# Altium schematic symbol library ZLS_Schematic_lib.SchLib: 124 symbols
Pins are listed as number, name and electrical type; pins without a type are passive.

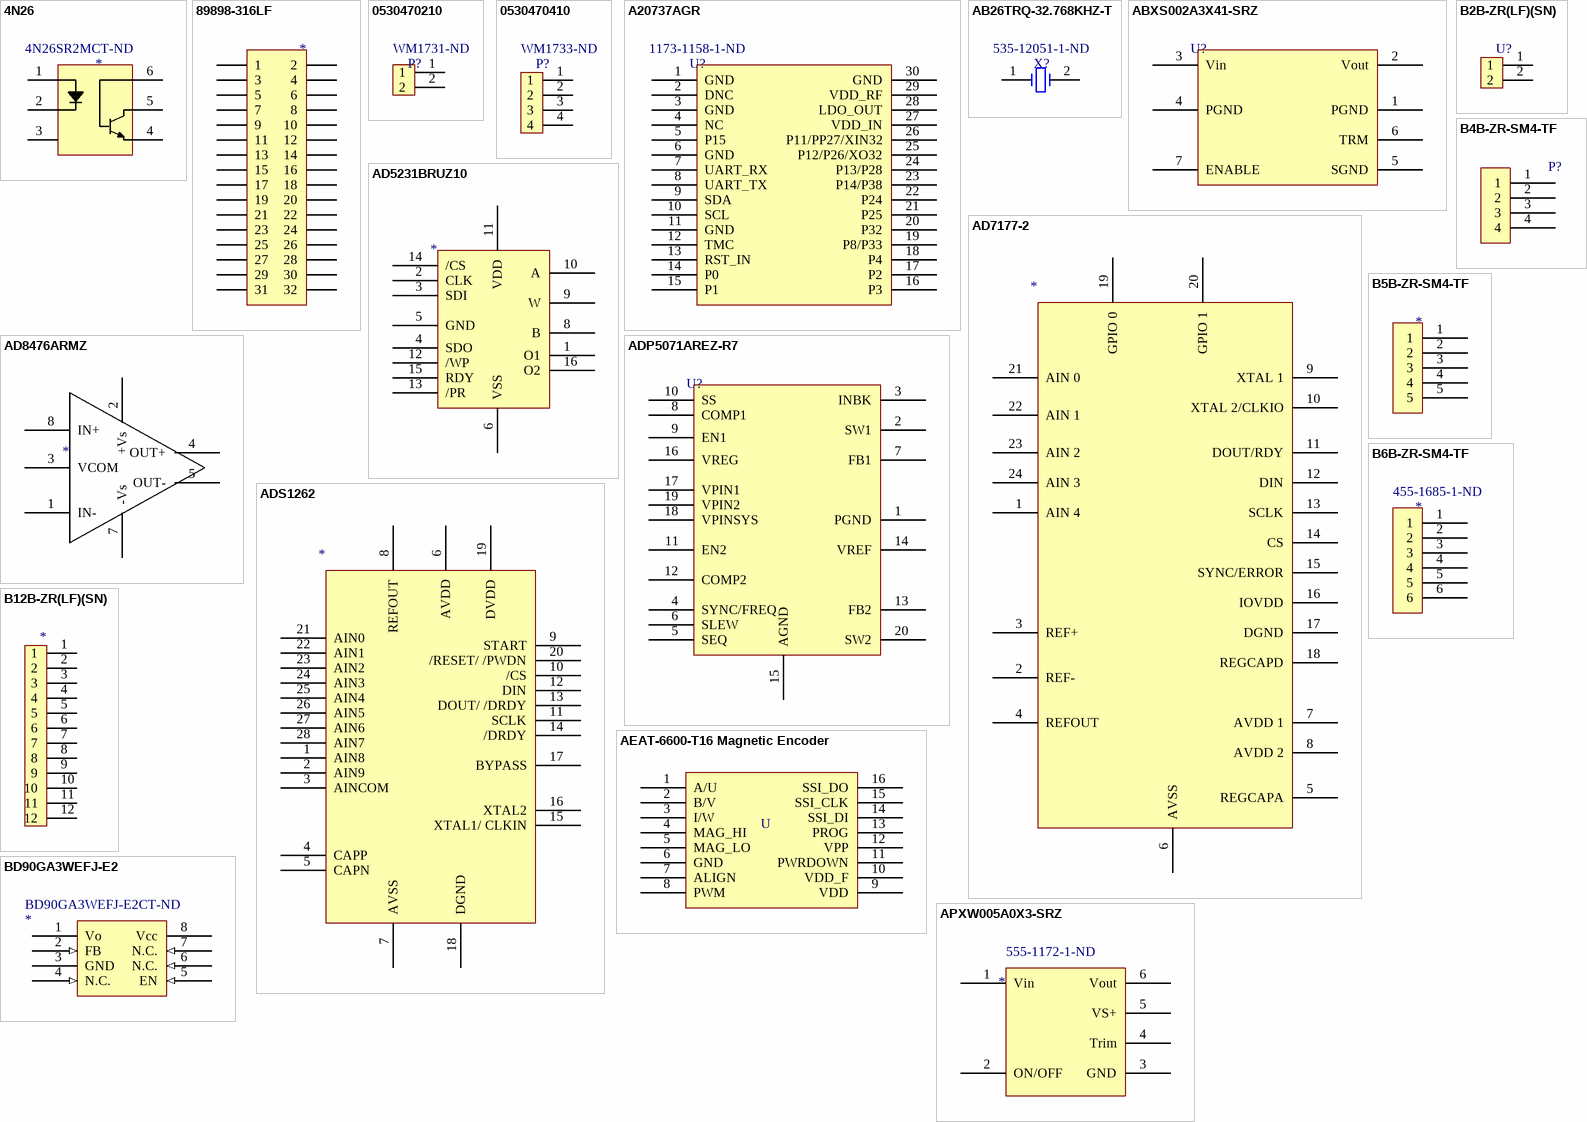
[diagram p0: symbols 4N26 to BD90GA3WEFJ-E2]

## 4N26
designator *  Supplier Part Number 1: 4N26SR2MCT-ND  (hidden comment: *)
Supplier 1: Digi-Key
footprint 6-SMD Gull Wing
pins: 1, 2, 3, 4, 5, 6

## 89898-316LF
designator *  (value not drawn)
footprint 89898-316LF (n CONN RCPT 32POS .100 DL STR SMD)
pins: 1, 2, 3, 4, 5, 6, 7, 8, 9, 10, 11, 12, 13, 14, 15, 16, 17, 18, 19, 20, 21, 22, 23, 24, 25, 26, 27, 28, 29, 30, 31, 32

## 0530470210
designator P?  Supplier Part Number 1: WM1731-ND  (hidden comment: *)
CONN HEADER VERT 2POS 1.25MM; Supplier 1: Digi-Key
footprint 0530470210 (CONN HEADER VERT 2POS 1.25MM)
pins: 1, 2

## 0530470410
designator P?  Supplier Part Number 1: WM1733-ND  (hidden comment: *)
CONN HEADER VERT 4POS 1.25MM; Supplier 1: Digi-Key
footprint 0530470410 (CONN HEADER VERT 4POS 1.25MM)
pins: 1, 2, 3, 4

## A20737AGR
designator U?  Supplier Part Number 1: 1173-1158-1-ND  (hidden comment: A20737AGR)
Supplier 1: Digi-Key
footprint A20737AGR (Bluetooth LE Module)
pins: 1 GND, 2 DNC, 3 GND, 4 NC, 5 P15, 6 GND, 7 UART_RX, 8 UART_TX, 9 SDA, 10 SCL, 11 GND, 12 TMC, 13 RST_IN, 14 P0, 15 P1, 16 P3, 17 P2, 18 P4, 19 P8/P33, 20 P32, 21 P25, 22 P24, 23 P14/P38, 24 P13/P28, 25 P12/P26/XO32, 26 P11/PP27/XIN32, 27 VDD_IN, 28 LDO_OUT, 29 VDD_RF, 30 GND

## AB26TRQ-32.768KHZ-T
designator X?  Supplier Part Number 1: 535-12051-1-ND  (hidden comment: *)
Supplier 1: Digi-Key
footprint AB26TRQ-32.768KHZ-T (Crystal)
pins: 1, 2

## ABXS002A3X41-SRZ
designator U?  (value not drawn)
Supplier 1: Digi-Key; Supplier Part Number 1: 555-1388-1-ND
footprint ABXS002A3X41-SRZ (DC/DC CONVERTER 16-34V 65W)
pins: 1 PGND, 2 Vout, 3 Vin, 4 PGND, 5 SGND, 6 TRM, 7 ENABLE

## AD5231BRUZ10
designator *  (value not drawn)
footprint AD5231BRUZ10
pins: 1 O1, 2 CLK, 3 SDI, 4 SDO, 5 GND, 6 VSS, 8 B, 9 W, 10 A, 11 VDD, 12 /WP, 13 /PR, 14 /CS, 15 RDY, 16 O2

## AD7177-2
designator *  (value not drawn)
footprint AD7177-2BRUZ
pins: 1 AIN 4, 2 REF-, 3 REF+, 4 REFOUT, 5 REGCAPA, 6 AVSS, 7 AVDD 1, 8 AVDD 2, 9 XTAL 1, 10 XTAL 2/CLKIO, 11 DOUT/RDY, 12 DIN, 13 SCLK, 14 CS, 15 SYNC/ERROR, 16 IOVDD, 17 DGND, 18 REGCAPD, 19 GPIO 0, 20 GPIO 1, 21 AIN 0, 22 AIN 1, 23 AIN 2, 24 AIN 3

## AD8476ARMZ
designator *  (value not drawn)
footprint AD8476AMRZ
pins: 1 IN-, 2 +Vs, 3 VCOM, 4 OUT+, 5 OUT-, 6 NC hidden, 7 -Vs, 8 IN+

## ADP5071AREZ-R7
designator U?  (value not drawn)
Boost, SEPIC Switching Regulator IC Positive and Negative (Dual Rail) Adjustable 0.8V, 1.6V 2 Output 1.2A, 2A 20-TSSOP (0.173", 4.40mm Width) Exposed Pad
footprint ADP5071AREZ-R7
pins: 1 PGND, 2 SW1, 3 INBK, 4 SYNC/FREQ, 5 SEQ, 6 SLEW, 7 FB1, 8 COMP1, 9 EN1, 10 SS, 11 EN2, 12 COMP2, 13 FB2, 14 VREF, 15 AGND, 16 VREG, 17 VPIN1, 18 VPINSYS, 19 VPIN2, 20 SW2

## ADS1262
designator *, comment ads1262  (value not drawn)
32 bIT Analog to Digital COnverter
footprint ADS1262 (28 TSSOP)
pins: 1 AIN8, 2 AIN9, 3 AINCOM, 4 CAPP, 5 CAPN, 6 AVDD, 7 AVSS, 8 REFOUT, 9 START, 10 /CS, 11 SCLK, 12 DIN, 13 DOUT/ /DRDY, 14 /DRDY, 15 XTAL1/ CLKIN, 16 XTAL2, 17 BYPASS, 18 DGND, 19 DVDD, 20 /RESET/ /PWDN, 21 AIN0, 22 AIN1, 23 AIN2, 24 AIN3, 25 AIN4, 26 AIN5, 27 AIN6, 28 AIN7

## AEAT-6600-T16 Magnetic Encoder
designator U, comment AEAT-6600-T16  (value not drawn)
footprint AEAT-6600-T16
pins: 1 A/U, 2 B/V, 3 I/W, 4 MAG_HI, 5 MAG_LO, 6 GND, 7 ALIGN, 8 PWM, 9 VDD, 10 VDD_F, 11 PWRDOWN, 12 VPP, 13 PROG, 14 SSI_DI, 15 SSI_CLK, 16 SSI_DO

## APXW005A0X3-SRZ
designator *  Supplier Part Number 1: 555-1172-1-ND  (hidden comment: *)
Supplier 1: Digi-Key
footprint APXW005A0X3-SRZ (DC/DC CONVERTER 3-18V 45W)
pins: 1 Vin, 2 ON/OFF, 3 GND, 4 Trim, 5 VS+, 6 Vout

## B2B-ZR(LF)(SN)
designator U?  (value not drawn)
footprint B2B-ZR(LF)(SN)
pins: 1, 2

## B4B-ZR-SM4-TF
designator P?  (value not drawn)
footprint B4B-ZR-SM4-TF
pins: 1, 2, 3, 4, 5 hidden, 6 hidden

## B5B-ZR-SM4-TF
designator *  (value not drawn)
footprint B5B-ZR-SM4-TF
pins: 1, 2, 3, 4, 5

## B6B-ZR-SM4-TF
designator *  Supplier Part Number 1: 455-1685-1-ND  (hidden comment: *)
Supplier 1: Digi-Key
footprint B6B-ZR-SM4-TF
pins: 1, 2, 3, 4, 5, 6

## B12B-ZR(LF)(SN)
designator *  (value not drawn)
pins: 1, 2, 3, 4, 5, 6, 7, 8, 9, 10, 11, 12

## BD90GA3WEFJ-E2
designator *  Supplier Part Number 1: BD90GA3WEFJ-E2CT-ND  (hidden comment: *)
Supplier 1: Digi-Key
footprint TSOP127P600X100-8N (TSOP, 8-Leads, Body 4.90x3.90mm, Pitch 1.27mm, IPC Medium Density)
pins: 1 Vo (power), 2 FB (in), 3 GND (power), 4 N.C. (in), 5 EN (in), 6 N.C. (in), 7 N.C. (in), 8 Vcc (power)

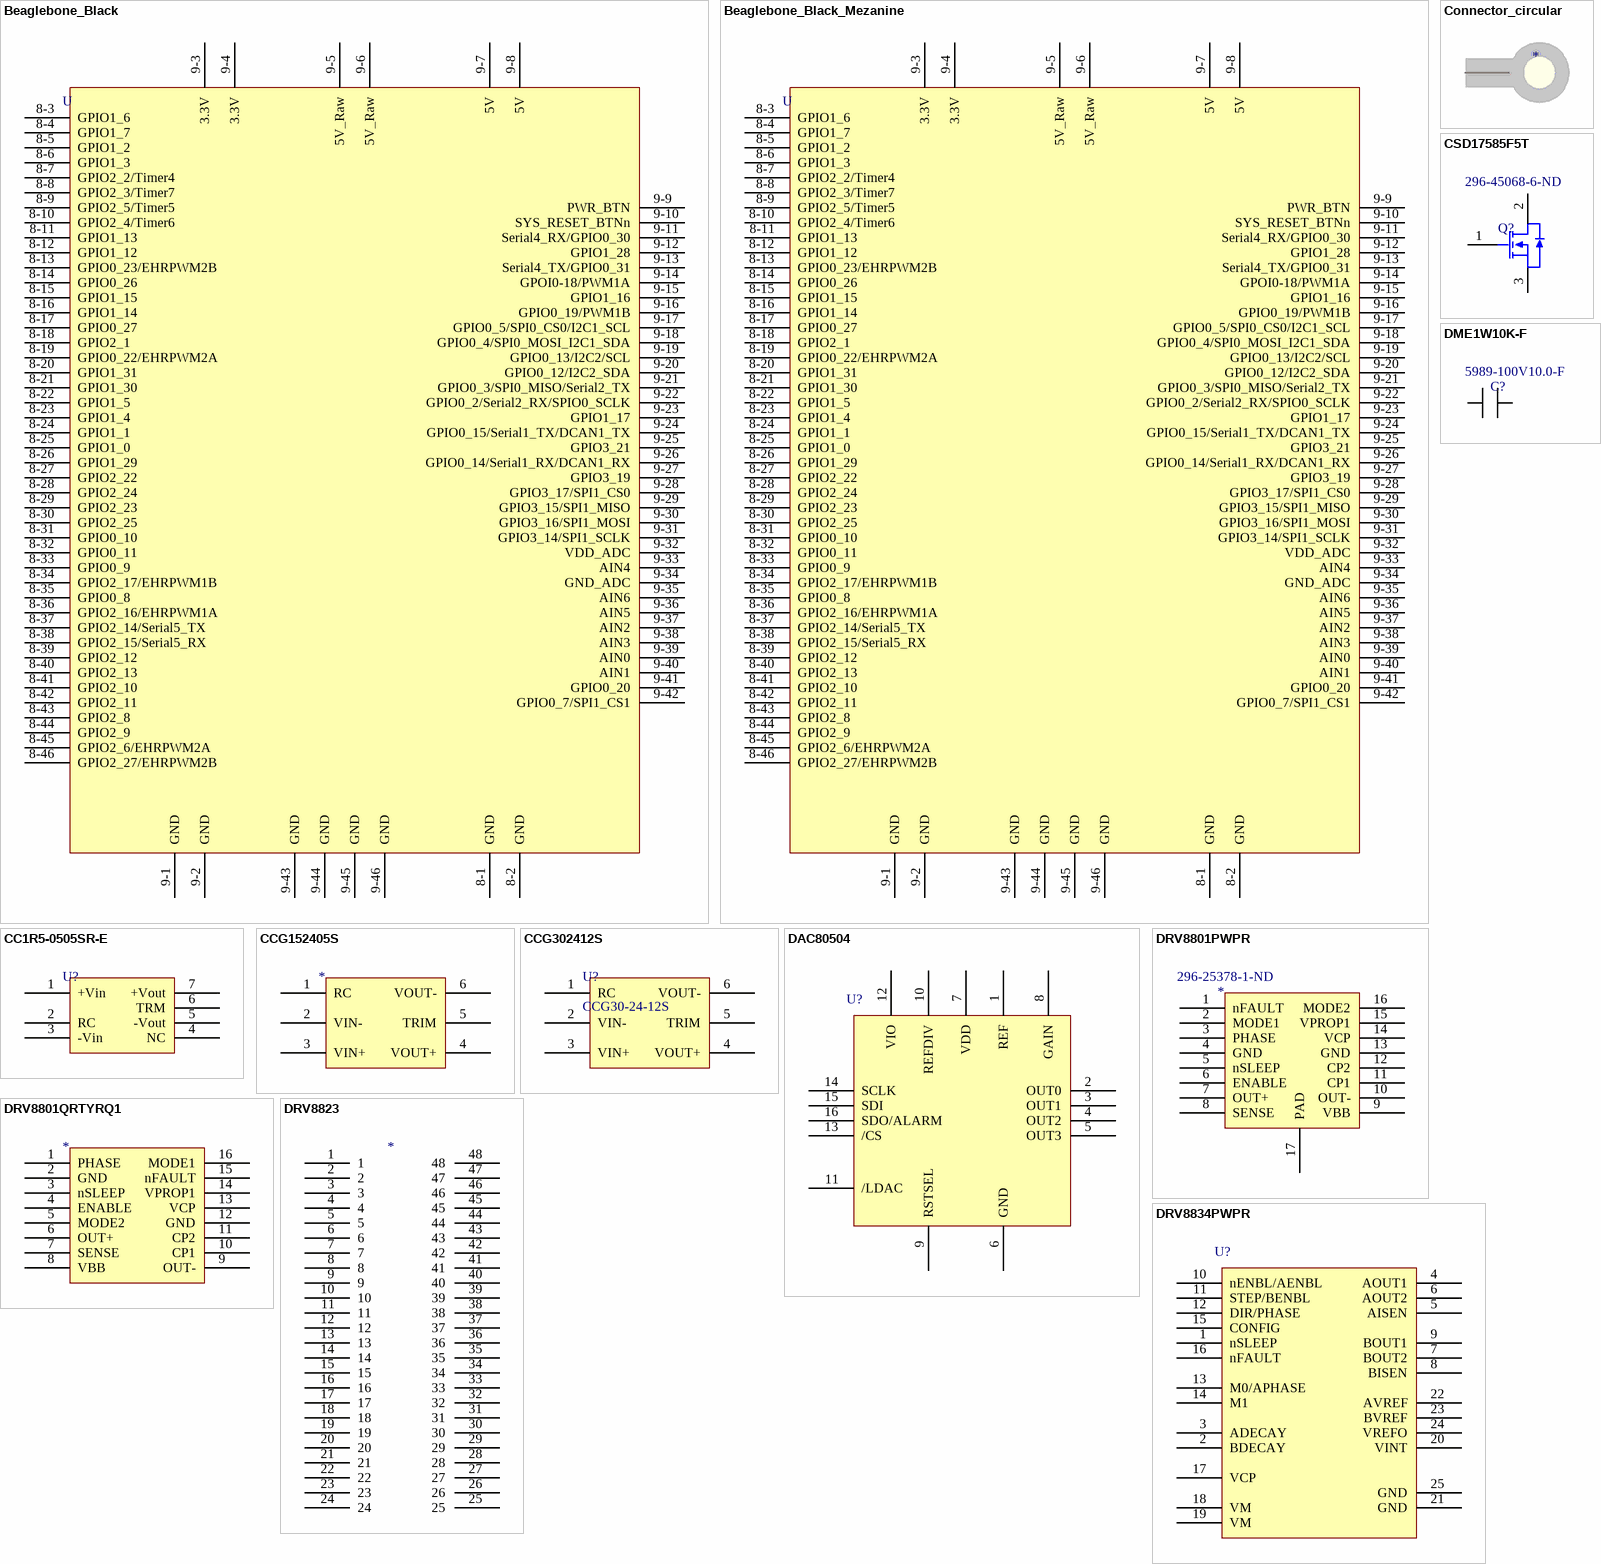
[diagram p1: symbols Beaglebone_Black to DRV8834PWPR]

## Beaglebone_Black
designator U, comment BBB  (value not drawn)
Beaglebone Black
footprint Beaglebone Black
pins: 8-1 GND, 8-2 GND, 8-3 GPIO1_6, 8-4 GPIO1_7, 8-5 GPIO1_2, 8-6 GPIO1_3, 8-7 GPIO2_2/Timer4, 8-8 GPIO2_3/Timer7, 8-9 GPIO2_5/Timer5, 8-10 GPIO2_4/Timer6, 8-11 GPIO1_13, 8-12 GPIO1_12, 8-13 GPIO0_23/EHRPWM2B, 8-14 GPIO0_26, 8-15 GPIO1_15, 8-16 GPIO1_14, 8-17 GPIO0_27, 8-18 GPIO2_1, 8-19 GPIO0_22/EHRPWM2A, 8-20 GPIO1_31, 8-21 GPIO1_30, 8-22 GPIO1_5, 8-23 GPIO1_4, 8-24 GPIO1_1, 8-25 GPIO1_0, 8-26 GPIO1_29, 8-27 GPIO2_22, 8-28 GPIO2_24, 8-29 GPIO2_23, 8-30 GPIO2_25, 8-31 GPIO0_10, 8-32 GPIO0_11, 8-33 GPIO0_9, 8-34 GPIO2_17/EHRPWM1B, 8-35 GPIO0_8, 8-36 GPIO2_16/EHRPWM1A, 8-37 GPIO2_14/Serial5_TX, 8-38 GPIO2_15/Serial5_RX, 8-39 GPIO2_12, 8-40 GPIO2_13, 8-41 GPIO2_10, 8-42 GPIO2_11, 8-43 GPIO2_8, 8-44 GPIO2_9, 8-45 GPIO2_6/EHRPWM2A, 8-46 GPIO2_27/EHRPWM2B, 9-1 GND, 9-2 GND, 9-3 3.3V, 9-4 3.3V, 9-5 5V_Raw, 9-6 5V_Raw, 9-7 5V, 9-8 5V, 9-9 PWR_BTN, 9-10 SYS_RESET_BTNn, 9-11 Serial4_RX/GPIO0_30, 9-12 GPIO1_28, 9-13 Serial4_TX/GPIO0_31, 9-14 GPOI0-18/PWM1A, 9-15 GPIO1_16, 9-16 GPIO0_19/PWM1B, 9-17 GPIO0_5/SPI0_CS0/I2C1_SCL, 9-18 GPIO0_4/SPI0_MOSI_I2C1_SDA, 9-19 GPIO0_13/I2C2/SCL, 9-20 GPIO0_12/I2C2_SDA, 9-21 GPIO0_3/SPI0_MISO/Serial2_TX, 9-22 GPIO0_2/Serial2_RX/SPIO0_SCLK, 9-23 GPIO1_17, 9-24 GPIO0_15/Serial1_TX/DCAN1_TX, 9-25 GPIO3_21, 9-26 GPIO0_14/Serial1_RX/DCAN1_RX, 9-27 GPIO3_19, 9-28 GPIO3_17/SPI1_CS0, 9-29 GPIO3_15/SPI1_MISO, 9-30 GPIO3_16/SPI1_MOSI, 9-31 GPIO3_14/SPI1_SCLK, 9-32 VDD_ADC, 9-33 AIN4, 9-34 GND_ADC, 9-35 AIN6, 9-36 AIN5, 9-37 AIN2, 9-38 AIN3, 9-39 AIN0, 9-40 AIN1, 9-41 GPIO0_20, 9-42 GPIO0_7/SPI1_CS1, 9-43 GND, 9-44 GND, 9-45 GND, 9-46 GND

## Beaglebone_Black_Mezanine
designator U, comment BBB  (value not drawn)
Beaglebone Black
footprint Beaglebone Black Mezanine
pins: 8-1 GND, 8-2 GND, 8-3 GPIO1_6, 8-4 GPIO1_7, 8-5 GPIO1_2, 8-6 GPIO1_3, 8-7 GPIO2_2/Timer4, 8-8 GPIO2_3/Timer7, 8-9 GPIO2_5/Timer5, 8-10 GPIO2_4/Timer6, 8-11 GPIO1_13, 8-12 GPIO1_12, 8-13 GPIO0_23/EHRPWM2B, 8-14 GPIO0_26, 8-15 GPIO1_15, 8-16 GPIO1_14, 8-17 GPIO0_27, 8-18 GPIO2_1, 8-19 GPIO0_22/EHRPWM2A, 8-20 GPIO1_31, 8-21 GPIO1_30, 8-22 GPIO1_5, 8-23 GPIO1_4, 8-24 GPIO1_1, 8-25 GPIO1_0, 8-26 GPIO1_29, 8-27 GPIO2_22, 8-28 GPIO2_24, 8-29 GPIO2_23, 8-30 GPIO2_25, 8-31 GPIO0_10, 8-32 GPIO0_11, 8-33 GPIO0_9, 8-34 GPIO2_17/EHRPWM1B, 8-35 GPIO0_8, 8-36 GPIO2_16/EHRPWM1A, 8-37 GPIO2_14/Serial5_TX, 8-38 GPIO2_15/Serial5_RX, 8-39 GPIO2_12, 8-40 GPIO2_13, 8-41 GPIO2_10, 8-42 GPIO2_11, 8-43 GPIO2_8, 8-44 GPIO2_9, 8-45 GPIO2_6/EHRPWM2A, 8-46 GPIO2_27/EHRPWM2B, 9-1 GND, 9-2 GND, 9-3 3.3V, 9-4 3.3V, 9-5 5V_Raw, 9-6 5V_Raw, 9-7 5V, 9-8 5V, 9-9 PWR_BTN, 9-10 SYS_RESET_BTNn, 9-11 Serial4_RX/GPIO0_30, 9-12 GPIO1_28, 9-13 Serial4_TX/GPIO0_31, 9-14 GPOI0-18/PWM1A, 9-15 GPIO1_16, 9-16 GPIO0_19/PWM1B, 9-17 GPIO0_5/SPI0_CS0/I2C1_SCL, 9-18 GPIO0_4/SPI0_MOSI_I2C1_SDA, 9-19 GPIO0_13/I2C2/SCL, 9-20 GPIO0_12/I2C2_SDA, 9-21 GPIO0_3/SPI0_MISO/Serial2_TX, 9-22 GPIO0_2/Serial2_RX/SPIO0_SCLK, 9-23 GPIO1_17, 9-24 GPIO0_15/Serial1_TX/DCAN1_TX, 9-25 GPIO3_21, 9-26 GPIO0_14/Serial1_RX/DCAN1_RX, 9-27 GPIO3_19, 9-28 GPIO3_17/SPI1_CS0, 9-29 GPIO3_15/SPI1_MISO, 9-30 GPIO3_16/SPI1_MOSI, 9-31 GPIO3_14/SPI1_SCLK, 9-32 VDD_ADC, 9-33 AIN4, 9-34 GND_ADC, 9-35 AIN6, 9-36 AIN5, 9-37 AIN2, 9-38 AIN3, 9-39 AIN0, 9-40 AIN1, 9-41 GPIO0_20, 9-42 GPIO0_7/SPI1_CS1, 9-43 GND, 9-44 GND, 9-45 GND, 9-46 GND

## CC1R5-0505SR-E
designator U?  (value not drawn)
Supplier 1: Digi-Key; Supplier Part Number 1: 445-3267-ND
footprint CC1R5-0505SR-E (DC-DC Converter)
pins: 1 +Vin, 2 RC, 3 -Vin, 4 NC, 5 -Vout, 6 TRM, 7 +Vout

## CCG152405S
designator *  (value not drawn)
footprint PXB15-24WD05/N (DC-DC CONV 15W DUAL 5V)
pins: 1 RC, 2 VIN-, 3 VIN+, 4 VOUT+, 5 TRIM, 6 VOUT-

## CCG302412S
designator U?, comment CCG30-24-12S
DC DC CONVERTER 12V 30W; Manufacturer: TDK-Lambda Americas Inc.; Manufacturer Part Number: CCG302412S; Voltage - Input (Min): 9V; Voltage - Input (Max): 36V; Current - Output (Max): 2.5A; Efficiency: 89%; Control Features: Enable, Active Low; Supplier 1: Digi-Key; RoHS: RoHS Compliant; Category: Power Supplies - Board Mount; Stock 1: 269; Pricing 1: 1=41.1, 10=40.25 (USD); Packaging: Tray; Part Status: Active; Type: Isolated Module; Voltage - Output 1: 12V; Voltage - Output 2: -; Voltage - Output 3: -; Applications: ITE (Commercial); Features: Remote On/Off, OCP, OVP; Operating Temperature: -40°C ~ 85°C; Mounting Type: Through Hole; Package / Case: 6-DIP Module; Size / Dimension: 1.00" L x 1.00" W x 0.39" H (25.4mm x 25.4mm x 9.9mm); ComponentLink1URL: http://www.us.tdk-lambda.com/ftp/specs/ccg30.pdf; ComponentLink1Description: http://www.us.tdk-lambda.com/ftp/specs/ccg30.pdf; Supplier Part Number 1: 285-2419-ND
footprint PXB15-24WD05/N (DC-DC CONV 15W DUAL 5V)
pins: 1 RC, 2 VIN-, 3 VIN+, 4 VOUT+, 5 TRIM, 6 VOUT-

## Connector_circular
designator *  (value not drawn)
pins: 1

## CSD17585F5T
designator Q?  Supplier Part Number 1: 296-45068-6-ND  (hidden comment: *)
MOSFET N-CH 30V 5.9A PICOSTAR; Supplier 1: Digi-Key
footprint CSD17585F5T (MOSFET N-CH 30V 5.9A PICOSTAR)
pins: 1 G, 2 D, 3 S

## DAC80504
designator U?  (value not drawn)
footprint DAC80504
pins: 1 REF, 2 OUT0, 3 OUT1, 4 OUT2, 5 OUT3, 6 GND, 7 VDD, 8 GAIN, 9 RSTSEL, 10 REFDIV, 11 /LDAC, 12 VIO, 13 /CS, 14 SCLK, 15 SDI, 16 SDO/ALARM

## DME1W10K-F
designator C?  Supplier Part Number 1: 5989-100V10.0-F  (hidden comment: *)
Film Capacitors DME 100V10.0uF; Supplier 1: Mouser
footprint DME1W10K-F (Cap)
pins: 1, 2

## DRV8801PWPR
designator *  Supplier Part Number 1: 296-25378-1-ND  (hidden comment: *)
Supplier 1: Digi-Key
footprint DRV8801PWPR (IC MOTOR DRIVER PAR 16HTSSOP)
pins: 1 nFAULT, 2 MODE1, 3 PHASE, 4 GND, 5 nSLEEP, 6 ENABLE, 7 OUT+, 8 SENSE, 9 VBB, 10 OUT-, 11 CP1, 12 CP2, 13 GND, 14 VCP, 15 VPROP1, 16 MODE2, 17 PAD

## DRV8801QRTYRQ1
designator *  (value not drawn)
footprint DRV8801QRTYRQ1
pins: 1 PHASE, 2 GND, 3 nSLEEP, 4 ENABLE, 5 MODE2, 6 OUT+, 7 SENSE, 8 VBB, 9 OUT-, 10 CP1, 11 CP2, 12 GND, 13 VCP, 14 VPROP1, 15 nFAULT, 16 MODE1

## DRV8823
designator *  (value not drawn)
footprint HTSSOP50P810X120_HS-49N (HTSSOP, 48-Leads, Body 12.50x6.10mm, Pitch 0.50mm, Thermal Pad 3.70x3.65mm, IPC Medium Density)
pins: 1, 2, 3, 4, 5, 6, 7, 8, 9, 10, 11, 12, 13, 14, 15, 16, 17, 18, 19, 20, 21, 22, 23, 24, 25, 26, 27, 28, 29, 30, 31, 32, 33, 34, 35, 36, 37, 38, 39, 40, 41, 42, 43, 44, 45, 46, 47, 48

## DRV8834PWPR
designator U?  (value not drawn)
pins: 1 nSLEEP, 2 BDECAY, 3 ADECAY, 4 AOUT1, 5 AISEN, 6 AOUT2, 7 BOUT2, 8 BISEN, 9 BOUT1, 10 nENBL/AENBL, 11 STEP/BENBL, 12 DIR/PHASE, 13 M0/APHASE, 14 M1, 15 CONFIG, 16 nFAULT, 17 VCP, 18 VM, 19 VM, 20 VINT, 21 GND, 22 AVREF, 23 BVREF, 24 VREFO, 25 GND

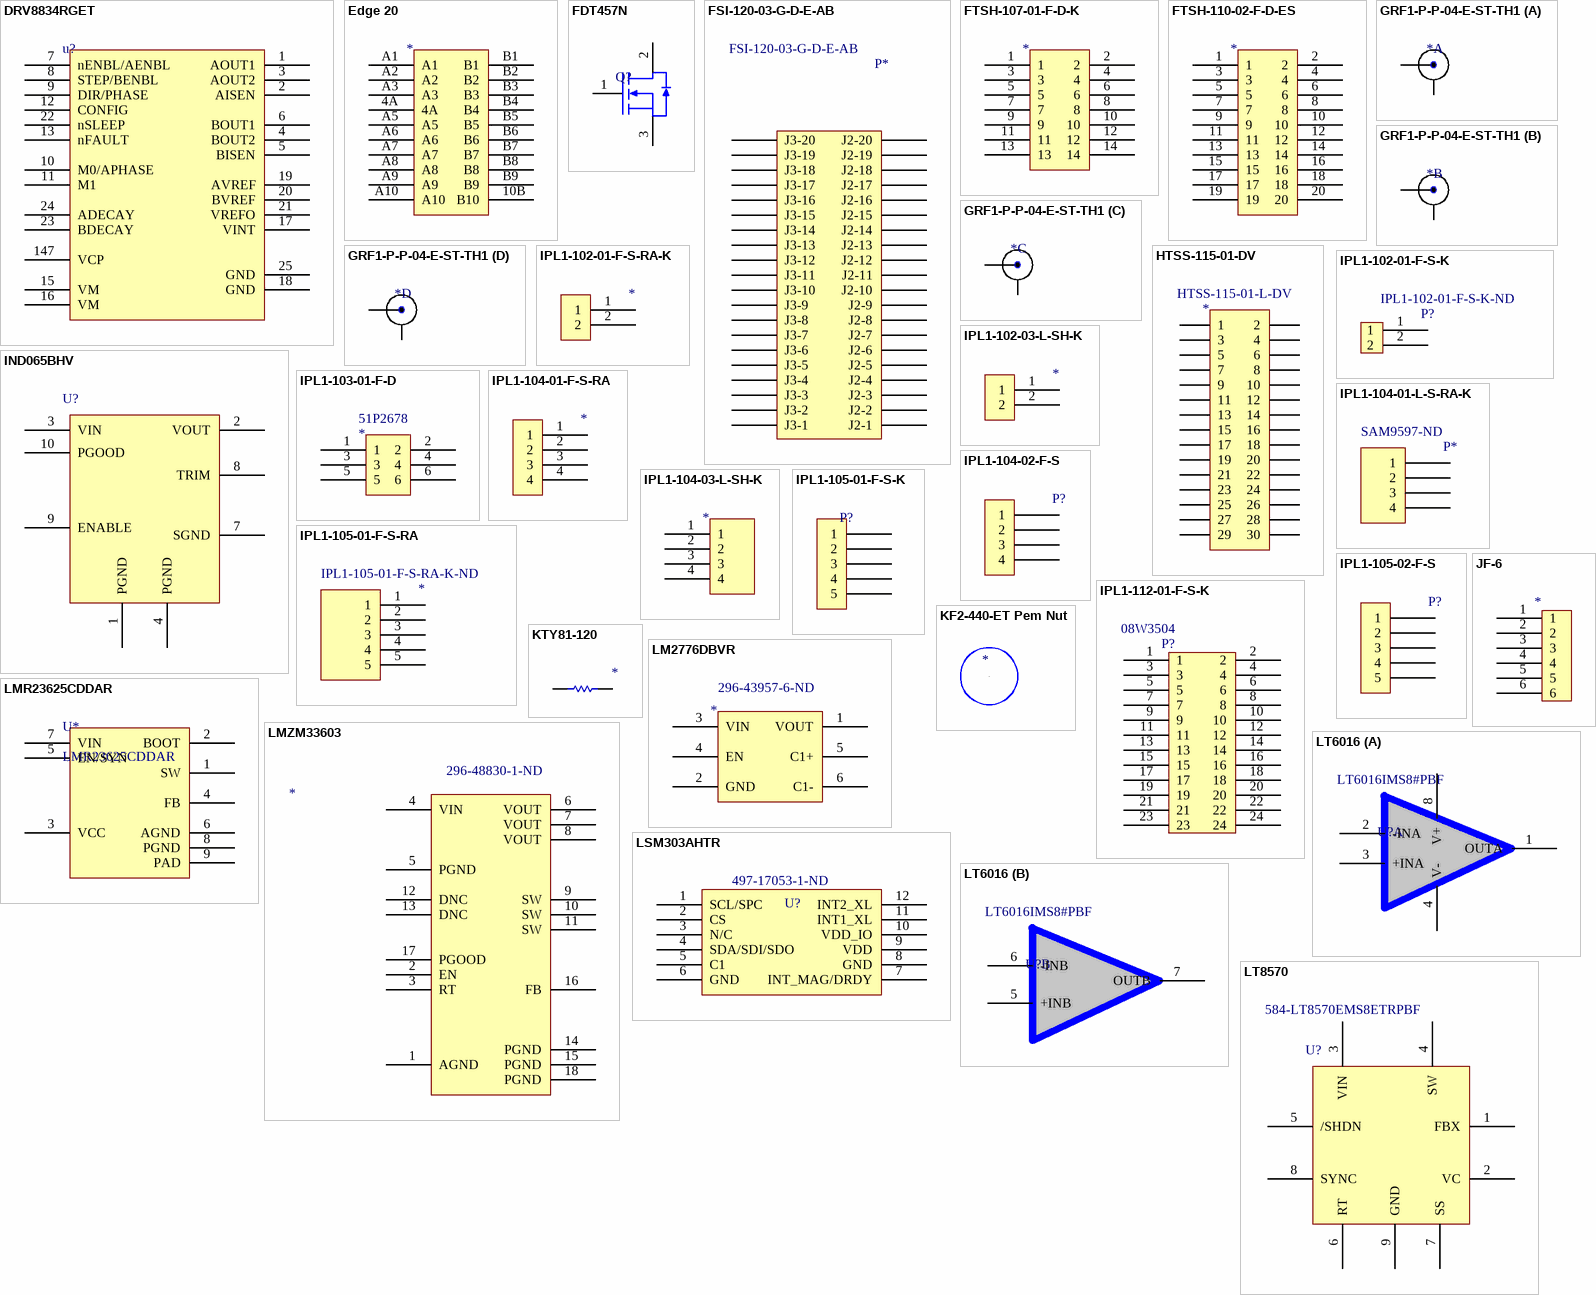
[diagram p2: symbols DRV8834RGET to LT8570]

## DRV8834RGET
designator u?  (value not drawn)
footprint DRV8834PWPR
pins: 1 AOUT1, 2 AISEN, 3 AOUT2, 4 BOUT2, 5 BISEN, 6 BOUT1, 7 nENBL/AENBL, 8 STEP/BENBL, 9 DIR/PHASE, 10 M0/APHASE, 11 M1, 12 CONFIG, 13 nFAULT, 15 VM, 16 VM, 17 VINT, 18 GND, 19 AVREF, 20 BVREF, 21 VREFO, 22 nSLEEP, 23 BDECAY, 24 ADECAY, 25 GND, 147 VCP

## Edge 20
designator *  (value not drawn)
footprint Edge Connector 20
pins: 4A, 10B B10, A1, A2, A3, A5, A6, A7, A8, A9, A10, B1, B2, B3, B4, B5, B6, B7, B8, B9

## FDT457N
designator Q?  (value not drawn)
MOSFET N-CH 30V 5A SOT-223
footprint FDT457N (SOT223, 4-Leads, Body 6.50x7.00mm (avg), Pitch 2.30mm, IPC Medium Density)
pins: 1 G, 2 D, 3 S

## FSI-120-03-G-D-E-AB
designator P*  Supplier Part Number 1: FSI-120-03-G-D-E-AB  (hidden comment: *)
Supplier 1: Avnet
footprint FSI-120-03-G-D-E-AB
pins: J2-1, J2-2, J2-3, J2-4, J2-5, J2-6, J2-7, J2-8, J2-9, J2-10, J2-11, J2-12, J2-13, J2-14, J2-15, J2-16, J2-17, J2-18, J2-19, J2-20, J3-1, J3-2, J3-3, J3-4, J3-5, J3-6, J3-7, J3-8, J3-9, J3-10, J3-11, J3-12, J3-13, J3-14, J3-15, J3-16, J3-17, J3-18, J3-19, J3-20

## FTSH-107-01-F-D-K
designator *  (value not drawn)
pins: 1, 2, 3, 4, 5, 6, 7, 8, 9, 10, 11, 12, 13, 14

## FTSH-110-02-F-D-ES
designator *  (value not drawn)
footprint FTSH-110-02-F-D-ES (CONN HEADER VERT 20POS 1.27MM)
pins: 1, 2, 3, 4, 5, 6, 7, 8, 9, 10, 11, 12, 13, 14, 15, 16, 17, 18, 19, 20

## GRF1-P-P-04-E-ST-TH1
designator *  (value not drawn)
footprint GRF1-P-P-04-E-ST-TH1
part A pins: 1, 8
part B pins: 2, 7
part C pins: 3, 6
part D pins: 4, 5

## HTSS-115-01-DV
designator *  Supplier Part Number 1: HTSS-115-01-L-DV  (hidden comment: *)
Supplier 1: Avnet
footprint HTSS-115-01-DV
pins: 1, 2, 3, 4, 5, 6, 7, 8, 9, 10, 11, 12, 13, 14, 15, 16, 17, 18, 19, 20, 21, 22, 23, 24, 25, 26, 27, 28, 29, 30

## IND065BHV
designator U?  (value not drawn)
footprint IND065BHV (DC DC CONVERTER 32-54V 65W)
pins: 1 PGND, 2 VOUT, 3 VIN, 4 PGND, 7 SGND, 8 TRIM, 9 ENABLE, 10 PGOOD

## IPL1-102-01-F-S-K
designator P?  Supplier Part Number 1: IPL1-102-01-F-S-K-ND  (hidden comment: IPL1-102-01-F-S-K)
.100 TERMINAL ASSEMBLY; Supplier 1: Digi-Key
footprint IPL1-102-01-F-S-K
pins: 1, 2

## IPL1-102-01-F-S-RA-K
designator *  (value not drawn)
footprint IPL1-102-01-F-S-RA-K (.100 TERMINAL ASSEMBLY)
pins: 1, 2

## IPL1-102-03-L-SH-K
designator *  (value not drawn)
footprint IPL1-102-03-L-SH-K
pins: 1, 2

## IPL1-103-01-F-D
designator *  Supplier Part Number 1: 51P2678  (hidden comment: *)
Supplier 1: Newark
footprint IPL1-103-01-F-D
pins: 1, 2, 3, 4, 5, 6

## IPL1-104-01-F-S-RA
designator *  (value not drawn)
footprint IPL1-104-01-L-S-RA-K
pins: 1, 2, 3, 4

## IPL1-104-01-L-S-RA-K
designator P*  Supplier Part Number 1: SAM9597-ND  (hidden comment: *)
IPL1-104-01-L-S-RA-K; Supplier 1: Digi-Key
footprint IPL1-104-01-L-S-RA-K
pins: 1, 2, 3, 4

## IPL1-104-02-F-S
designator P?, comment IPL1-104-02-F-S-K  (value not drawn)
footprint IPL1-104-02-F-S-K
pins: 1, 2, 3, 4

## IPL1-104-03-L-SH-K
designator *  (value not drawn)
pins: 1, 2, 3, 4

## IPL1-105-01-F-S-K
designator P?  (value not drawn)
IPL1-105-01-F-S-K; Supplier 1: Newark; Supplier Part Number 1: 99R3297
footprint IPL1-105-01-F-S-K
pins: 1, 2, 3, 4, 5

## IPL1-105-01-F-S-RA
designator *  Supplier Part Number 1: IPL1-105-01-F-S-RA-K-ND  (hidden comment: *)
Supplier 1: Digi-Key
footprint IPL1-105-01-F-S-RA
pins: 1, 2, 3, 4, 5

## IPL1-105-02-F-S
designator P?, comment IPL1-105-02-F-S-K  (value not drawn)
footprint IPL1-105-02-F-S-K
pins: 1, 2, 3, 4, 5

## IPL1-112-01-F-S-K
designator P?  Supplier Part Number 1: 08W3504  (hidden comment: *)
IPL1-112-01-F-D-K; Supplier 1: Newark
footprint IPL1-112-01-F-S-K
pins: 1, 2, 3, 4, 5, 6, 7, 8, 9, 10, 11, 12, 13, 14, 15, 16, 17, 18, 19, 20, 21, 22, 23, 24

## JF-6
designator *  (value not drawn)
footprint JF-6 (Microtech Connector)
pins: 1, 2, 3, 4, 5, 6

## KF2-440-ET Pem Nut
designator *  (value not drawn)
footprint KF2-440-ET (KF2-440-ET Pem Nut)
pins: 1

## KTY81-120
designator *  (value not drawn)
footprint KTY81-120 (THERMISTOR)
pins: 1, 2

## LM2776DBVR
designator *  Supplier Part Number 1: 296-43957-6-ND  (hidden comment: *)
Supplier 1: Digi-Key
footprint LM2776DBVR
pins: 1 VOUT, 2 GND, 3 VIN, 4 EN, 5 C1+, 6 C1-

## LMR23625CDDAR
designator U*
Supplier 1: Digi-Key; Supplier Part Number 1: 296-47268-6-ND
footprint LMR23625CDDAR (IC REG BUCK ADJ 2.5A SYNC 8SOPWR)
pins: 1 SW, 2 BOOT, 3 VCC, 4 FB, 5 EN/SYN, 6 AGND, 7 VIN, 8 PGND, 9 PAD

## LMZM33603
designator *  Supplier Part Number 1: 296-48830-1-ND  (hidden comment: *)
Supplier 1: Digi-Key
footprint LMZM33603
pins: 1 AGND, 2 EN, 3 RT, 4 VIN, 5 PGND, 6 VOUT, 7 VOUT, 8 VOUT, 9 SW, 10 SW, 11 SW, 12 DNC, 13 DNC, 14 PGND, 15 PGND, 16 FB, 17 PGOOD, 18 PGND

## LSM303AHTR
designator U?  Supplier Part Number 1: 497-17053-1-ND  (hidden comment: *)
Supplier 1: Digi-Key
footprint LSM303AHTR (LGA, 12-Leads, Body 2.00x2.00mmx1.00mm, Pitch 0.50mm)
pins: 1 SCL/SPC, 2 CS, 3 N/C, 4 SDA/SDI/SDO, 5 C1, 6 GND, 7 INT_MAG/DRDY, 8 GND, 9 VDD, 10 VDD_IO, 11 INT1_XL, 12 INT2_XL

## LT6016
designator U?  Supplier Part Number 1: LT6016IMS8#PBF  (hidden comment: *)
IC OPAMP GP 3.3MHZ RRO 8MSOP; Supplier 1: Arrow
footprint LT6016
part A pins: 1 OUTA, 2 -INA, 3 +INA, 4 V-, 8 V+
part B pins: 5 +INB, 6 -INB, 7 OUTB

## LT8570
designator U?  Supplier Part Number 1: 584-LT8570EMS8ETRPBF  (hidden comment: LT8570)
IC REG MULT CONFIG INV ADJ 8MSOP; Supplier 1: Mouser
footprint LT8570-MSOP
pins: 1 FBX, 2 VC, 3 VIN, 4 SW, 5 /SHDN, 6 RT, 7 SS, 8 SYNC, 9 GND

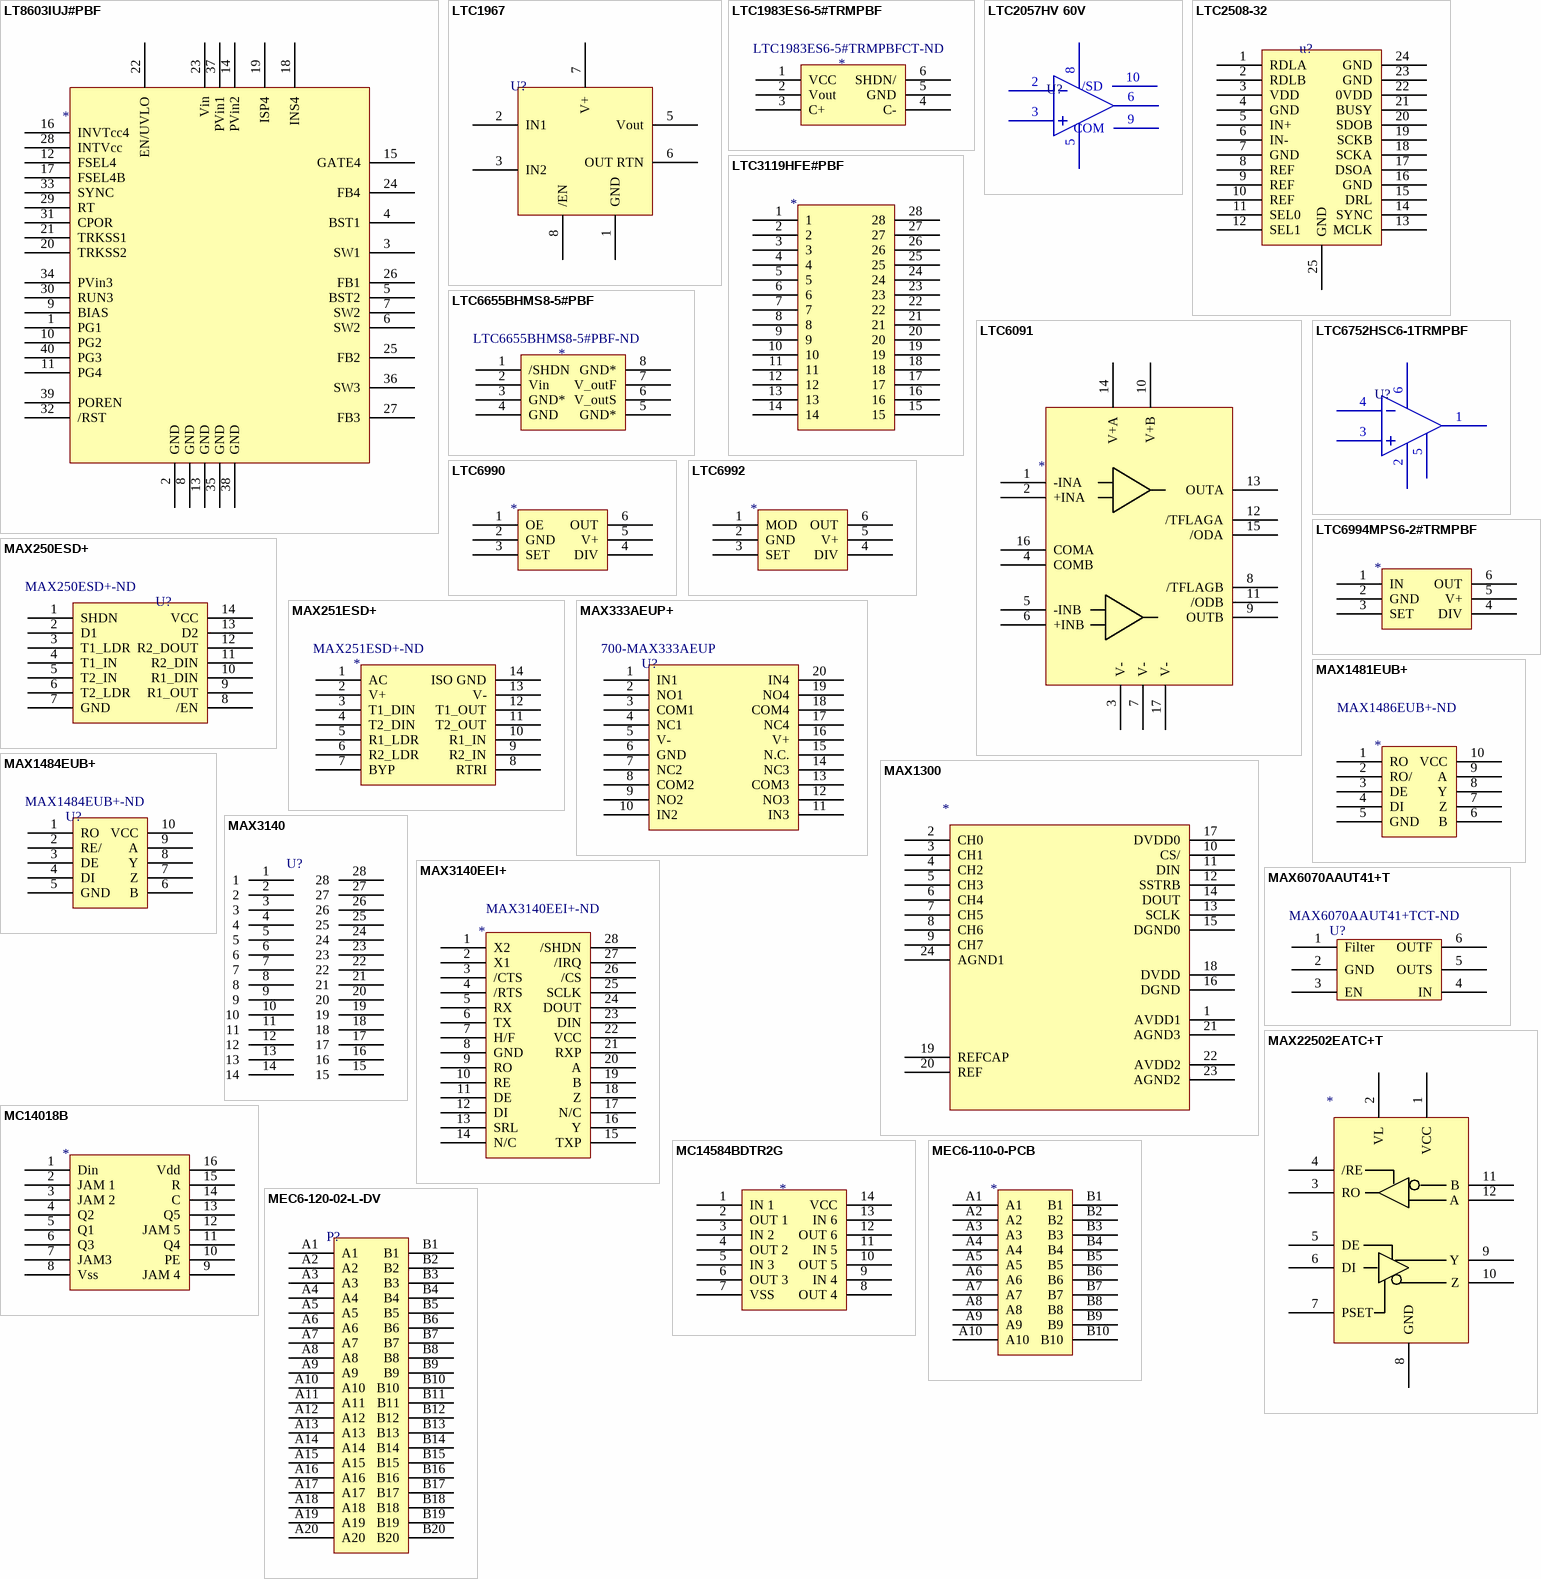
[diagram p3: symbols LT8603IUJ#PBF to MEC6-120-02-L-DV]

## LT8603IUJ#PBF
designator *  (value not drawn)
footprint LT8603IUJ#PBF (IC REG BUCK ADJ QUAD 40QFN)
pins: 1 PG1, 2 GND, 3 SW1, 4 BST1, 5 BST2, 6 SW2, 7 SW2, 8 GND, 9 BIAS, 10 PG2, 11 PG4, 12 FSEL4, 13 GND, 14 PVin2, 15 GATE4, 16 INVTcc4, 17 FSEL4B, 18 INS4, 19 ISP4, 20 TRKSS2, 21 TRKSS1, 22 EN/UVLO, 23 Vin, 24 FB4, 25 FB2, 26 FB1, 27 FB3, 28 INTVcc, 29 RT, 30 RUN3, 31 CPOR, 32 /RST, 33 SYNC, 34 PVin3, 35 GND, 36 SW3, 37 PVin1, 38 GND, 39 POREN, 40 PG3

## LTC1967
designator U?  (value not drawn)
IC CONVERTER RMS-DC PREC 9MSOP
footprint LTC1967
pins: 1 GND, 2 IN1, 3 IN2, 4 NC hidden, 5 Vout, 6 OUT RTN, 7 V+, 8 /EN

## LTC1983ES6-5#TRMPBF
designator *  Supplier Part Number 1: LTC1983ES6-5#TRMPBFCT-ND  (hidden comment: *)
Supplier 1: Digi-Key
footprint SOT95P323X100-6N (SOT23, 6-Leads, Body 2.90x3.23mm, Pitch 0.95mm, IPC Medium Density)
pins: 1 VCC, 2 Vout, 3 C+, 4 C-, 5 GND, 6 SHDN/

## LTC2057HV 60V
designator U?  (value not drawn)
footprint LTC2057HVHMS#PBF
pins: 2 -IN, 3 +IN, 5 V-, 6 OUT, 7 N.C. hidden, 8 V+, 9 COM, 10 /SD

## LTC2508-32
designator u?  (value not drawn)
footprint SON50P210X75_HS-25N (SON, 24-Leads, Body 3.55x2.05mm, Pitch 0.50mm, Thermal Pad 6.43x2.59mm, IPC Medium Density)
pins: 1 RDLA, 2 RDLB, 3 VDD, 4 GND, 5 IN+, 6 IN-, 7 GND, 8 REF, 9 REF, 10 REF, 11 SEL0, 12 SEL1, 13 MCLK, 14 SYNC, 15 DRL, 16 GND, 17 DSOA, 18 SCKA, 19 SCKB, 20 SDOB, 21 BUSY, 22 0VDD, 23 GND, 24 GND, 25 GND

## LTC3119HFE#PBF
designator *  (value not drawn)
footprint LTC3119HFE#PBF (DC-DC COnverter)
pins: 1, 2, 3, 4, 5, 6, 7, 8, 9, 10, 11, 12, 13, 14, 15, 16, 17, 18, 19, 20, 21, 22, 23, 24, 25, 26, 27, 28

## LTC6091
designator *  (value not drawn)
footprint LTC6091
pins: 1 -INA, 2 +INA, 3 V-, 4 COMB, 5 -INB, 6 +INB, 7 V-, 8 /TFLAGB, 9 OUTB, 10 V+B, 11 /ODB, 12 /TFLAGA, 13 OUTA, 14 V+A, 15 /ODA, 16 COMA, 17 V-

## LTC6655BHMS8-5#PBF
designator *  Supplier Part Number 1: LTC6655BHMS8-5#PBF-ND  (hidden comment: *)
Supplier 1: Digi-Key
footprint TSOP65P490X110-8N (TSOP, 8-Leads, Body 3.00x3.00mm, Pitch 0.65mm, IPC Medium Density)
pins: 1 /SHDN, 2 Vin, 3 GND*, 4 GND, 5 GND*, 6 V_outS, 7 V_outF, 8 GND*

## LTC6752HSC6-1TRMPBF
designator U?  (value not drawn)
IC COMP R-R CMOS 280MHZ SC70-6
pins: 1 OUT, 2 V-, 3 +IN, 4 -IN, 5 HYS, 6 V+

## LTC6990
designator *  (value not drawn)
footprint SOT95P280X445-6N (SOT23, 6-Leads, Body 2.90x2.80mm, Pitch 0.95mm, IPC Medium Density)
pins: 1 OE, 2 GND, 3 SET, 4 DIV, 5 V+, 6 OUT

## LTC6992
designator *  (value not drawn)
footprint SOT95P280X445-6N (SOT23, 6-Leads, Body 2.90x2.80mm, Pitch 0.95mm, IPC Medium Density)
pins: 1 MOD, 2 GND, 3 SET, 4 DIV, 5 V+, 6 OUT

## LTC6994MPS6-2#TRMPBF
designator *  (value not drawn)
footprint LTC6994MPS6-2#TRMPBF (SOT23, 6-Leads, Body 2.90x3.23mm, Pitch 0.95mm, IPC Medium Density)
pins: 1 IN, 2 GND, 3 SET, 4 DIV, 5 V+, 6 OUT

## MAX250ESD+
designator U?  Supplier Part Number 1: MAX250ESD+-ND  (hidden comment: *)
Supplier 1: Digi-Key
footprint MAX250ESD+ (SOIC, 14-Leads, Body 8.64x3.90mm, Pitch 1.27mm, IPC Medium Density)
pins: 1 SHDN, 2 D1, 3 T1_LDR, 4 T1_IN, 5 T2_IN, 6 T2_LDR, 7 GND, 8 /EN, 9 R1_OUT, 10 R1_DIN, 11 R2_DIN, 12 R2_DOUT, 13 D2, 14 VCC

## MAX251ESD+
designator *  Supplier Part Number 1: MAX251ESD+-ND  (hidden comment: *)
Supplier 1: Digi-Key
footprint MAX250ESD+ (SOIC, 14-Leads, Body 8.64x3.90mm, Pitch 1.27mm, IPC Medium Density)
pins: 1 AC, 2 V+, 3 T1_DIN, 4 T2_DIN, 5 R1_LDR, 6 R2_LDR, 7 BYP, 8 RTRI, 9 R2_IN, 10 R1_IN, 11 T2_OUT, 12 T1_OUT, 13 V-, 14 ISO GND

## MAX333AEUP+
designator U?  Supplier Part Number 1: 700-MAX333AEUP  (hidden comment: *)
Supplier 1: Mouser
footprint TSOP65P640X90-20N (TSOP, 20-Leads, Body 6.50x4.40mm, Pitch 0.65mm, IPC Medium Density)
pins: 1 IN1, 2 NO1, 3 COM1, 4 NC1, 5 V- (power), 6 GND, 7 NC2, 8 COM2, 9 NO2, 10 IN2, 11 IN3, 12 NO3, 13 COM3, 14 NC3, 15 N.C., 16 V+ (power), 17 NC4, 18 COM4, 19 NO4, 20 IN4

## MAX1300
designator *  (value not drawn)
footprint MAX1300 (TSOP, 24-Leads, Body 7.80x4.40mm, Pitch 0.65mm, IPC Medium Density)
pins: 1 AVDD1, 2 CH0, 3 CH1, 4 CH2, 5 CH3, 6 CH4, 7 CH5, 8 CH6, 9 CH7, 10 CS/, 11 DIN, 12 SSTRB, 13 SCLK, 14 DOUT, 15 DGND0, 16 DGND, 17 DVDD0, 18 DVDD, 19 REFCAP, 20 REF, 21 AGND3, 22 AVDD2, 23 AGND2, 24 AGND1

## MAX1481EUB+
designator *  Supplier Part Number 1: MAX1486EUB+-ND  (hidden comment: *)
Supplier 1: Digi-Key
footprint MAX1486EUB+
pins: 1 RO, 2 RO/, 3 DE, 4 DI, 5 GND, 6 B, 7 Z, 8 Y, 9 A, 10 VCC

## MAX1484EUB+
designator U?  Supplier Part Number 1: MAX1484EUB+-ND  (hidden comment: *)
IC TXRX RS485/RS422 10-UMAX; Supplier 1: Digi-Key
footprint MAX1486EUB+
pins: 1 RO, 2 RE/, 3 DE, 4 DI, 5 GND, 6 B, 7 Z, 8 Y, 9 A, 10 VCC

## MAX3140
designator U?  (value not drawn)
footprint QSOP127P600-8N
pins: 1, 2, 3, 4, 5, 6, 7, 8, 9, 10, 11, 12, 13, 14, 15, 16, 17, 18, 19, 20, 21, 22, 23, 24, 25, 26, 27, 28

## MAX3140EEI+
designator *  Supplier Part Number 1: MAX3140EEI+-ND  (hidden comment: *)
Supplier 1: Digi-Key
pins: 1 X2, 2 X1, 3 /CTS, 4 /RTS, 5 RX, 6 TX, 7 H/F, 8 GND, 9 RO, 10 RE, 11 DE, 12 DI, 13 SRL, 14 N/C, 15 TXP, 16 Y, 17 N/C, 18 Z, 19 B, 20 A, 21 RXP, 22 VCC, 23 DIN, 24 DOUT, 25 SCLK, 26 /CS, 27 /IRQ, 28 /SHDN

## MAX6070AAUT41+T
designator U?  Supplier Part Number 1: MAX6070AAUT41+TCT-ND  (hidden comment: MAX6070AAUT41+T)
Supplier 1: Digi-Key
footprint SOT95P280X445-6N (SOT23, 6-Leads, Body 2.90x2.80mm, Pitch 0.95mm, IPC Medium Density)
pins: 1 Filter, 2 GND, 3 EN, 4 IN, 5 OUTS, 6 OUTF

## MAX22502EATC+T
designator *  (value not drawn)
footprint MAX22502EATC+T
pins: 1 VCC, 2 VL, 3 RO, 4 /RE, 5 DE, 6 DI, 7 PSET, 8 GND, 9 Y, 10 Z, 11 B, 12 A

## MC14018B
designator *  (value not drawn)
footprint SOIC127P600X175-16N (SOIC, 16-Leads, Body 9.90x3.90mm, Pitch 1.27mm, IPC Medium Density)
pins: 1 Din, 2 JAM 1, 3 JAM 2, 4 Q2, 5 Q1, 6 Q3, 7 JAM3, 8 Vss, 9 JAM 4, 10 PE, 11 Q4, 12 JAM 5, 13 Q5, 14 C, 15 R, 16 Vdd

## MC14584BDTR2G
designator *  (value not drawn)
footprint MC14584BDTR2G
pins: 1 IN 1, 2 OUT 1, 3 IN 2, 4 OUT 2, 5 IN 3, 6 OUT 3, 7 VSS, 8 OUT 4, 9 IN 4, 10 OUT 5, 11 IN 5, 12 OUT 6, 13 IN 6, 14 VCC

## MEC6-110-0-PCB
designator *  (value not drawn)
footprint MEC6-110-02-L-DV (Edge Connector Socket)
pins: A1, A2, A3, A4, A5, A6, A7, A8, A9, A10, B1, B2, B3, B4, B5, B6, B7, B8, B9, B10

## MEC6-120-02-L-DV
designator P?  (value not drawn)
footprint MEC6-120-02-L-DV
pins: A1, A2, A3, A4, A5, A6, A7, A8, A9, A10, A11, A12, A13, A14, A15, A16, A17, A18, A19, A20, B1, B2, B3, B4, B5, B6, B7, B8, B9, B10, B11, B12, B13, B14, B15, B16, B17, B18, B19, B20

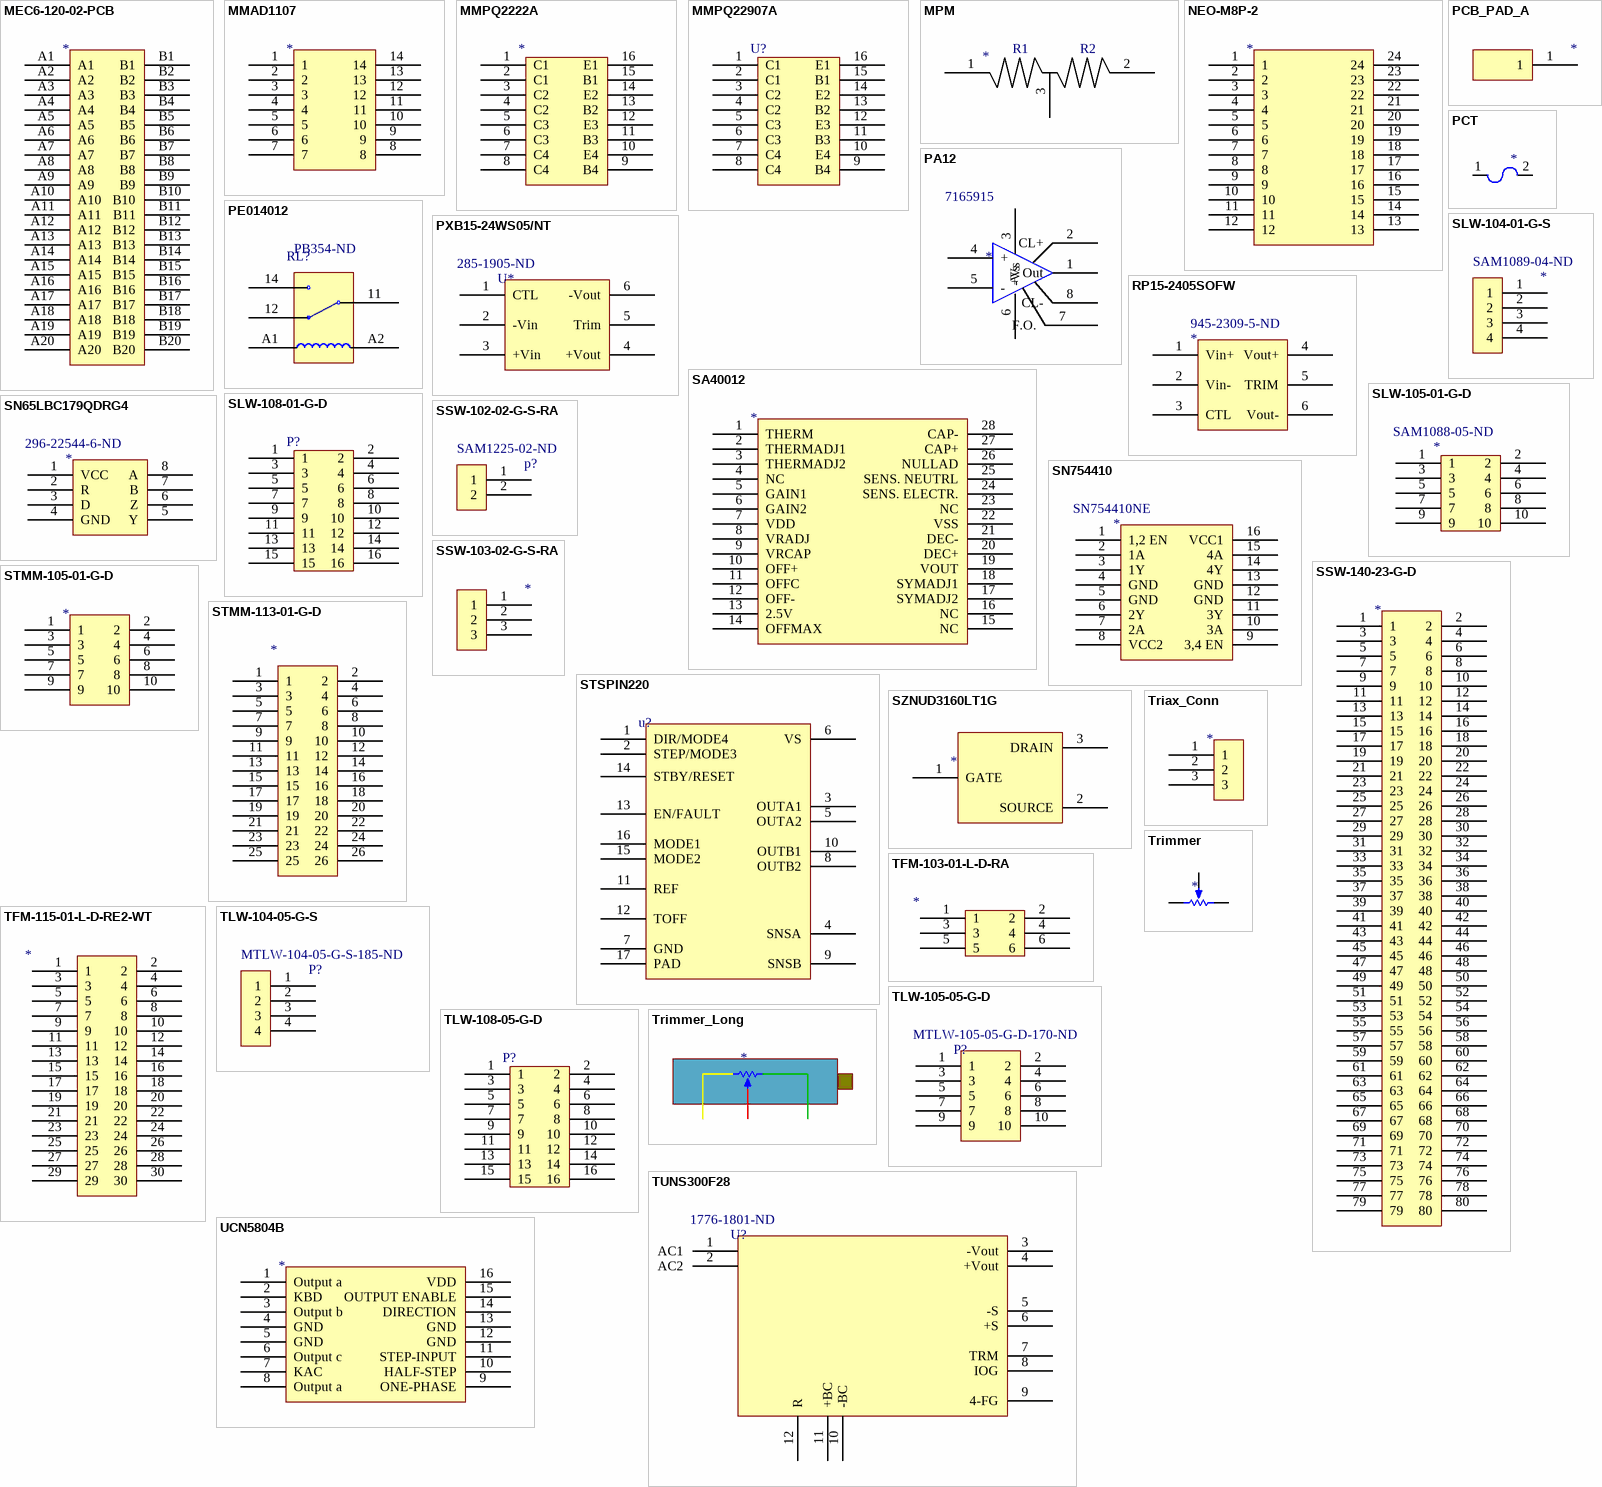
[diagram p4: symbols MEC6-120-02-PCB to UCN5804B]

## MEC6-120-02-PCB
designator *  (value not drawn)
footprint MEC6-120-02-PCB
pins: A1, A2, A3, A4, A5, A6, A7, A8, A9, A10, A11, A12, A13, A14, A15, A16, A17, A18, A19, A20, B1, B2, B3, B4, B5, B6, B7, B8, B9, B10, B11, B12, B13, B14, B15, B16, B17, B18, B19, B20

## MMAD1107
designator *  (value not drawn)
footprint MMAD1107 (SOIC, 14-Leads, Body 8.63x3.91mm, Pitch 1.27mm, IPC Medium Density)
pins: 1, 2, 3, 4, 5, 6, 7, 8, 9, 10, 11, 12, 13, 14

## MMPQ2222A
designator *  (value not drawn)
footprint MMPQ2222A
pins: 1 C1, 2 C1, 3 C2, 4 C2, 5 C3, 6 C3, 7 C4, 8 C4, 9 B4, 10 E4, 11 B3, 12 E3, 13 B2, 14 E2, 15 B1, 16 E1

## MMPQ22907A
designator U?  (value not drawn)
footprint MMPQ22907A
pins: 1 C1, 2 C1, 3 C2, 4 C2, 5 C3, 6 C3, 7 C4, 8 C4, 9 B4, 10 E4, 11 B3, 12 E3, 13 B2, 14 E2, 15 B1, 16 E1

## MPM
designator *  (value not drawn)
footprint SOT95P230X102-3N-MPM (SOT23, 3-Leads, Body 2.86x2.30mm, Pitch 0.95mm, IPC Medium Density)
pins: 1, 2, 3
text: R1; R2

## NEO-M8P-2
designator *  (value not drawn)
footprint NEO-M8P-2
pins: 1, 2, 3, 4, 5, 6, 7, 8, 9, 10, 11, 12, 13, 14, 15, 16, 17, 18, 19, 20, 21, 22, 23, 24

## PA12
designator *  Supplier Part Number 1: 7165915  (hidden comment: *)
Supplier 1: RSComponents
footprint TO-3-8
pins: 1 Out, 2 CL+, 3 +Vs, 4 +, 5 -, 6 -Vs, 7 F.O., 8 CL-

## PCB_PAD_A
designator *  (value not drawn)
footprint PCB_PAD_A
pins: 1

## PCT
designator *  (value not drawn)
footprint CAPC7451X12N (Chip Capacitor, 2-Leads, Body 7.36x5.12mm, IPC Medium Density)
pins: 1, 2

## PE014012
designator RL?  Supplier Part Number 1: PB354-ND  (hidden comment: *)
Supplier 1: Digi-Key
footprint PE014012 (Relay)
pins: 11 COM, 12 N.C., 14 N.O., A1 Coil, A2 Coil

## PXB15-24WS05/NT
designator U*  Supplier Part Number 1: 285-1905-ND  (hidden comment: *)
Supplier 1: Digi-Key
footprint PXB15-24WS05/NT (DC-DC Converter 5V 3A 15W)
pins: 1 CTL, 2 -Vin, 3 +Vin, 4 +Vout, 5 Trim, 6 -Vout

## RP15-2405SOFW
designator *  Supplier Part Number 1: 945-2309-5-ND  (hidden comment: *)
Supplier 1: Digi-Key
footprint RP15-2405SOFW (CONV DC/DC 15W 9-36VIN 05VOUT)
pins: 1 Vin+, 2 Vin-, 3 CTL, 4 Vout+, 5 TRIM, 6 Vout-

## SA40012
designator *  (value not drawn)
footprint SA40012
pins: 1 THERM, 2 THERMADJ1, 3 THERMADJ2, 4 NC, 5 GAIN1, 6 GAIN2, 7 VDD, 8 VRADJ, 9 VRCAP, 10 OFF+, 11 OFFC, 12 OFF-, 13 2.5V, 14 OFFMAX, 15 NC, 16 NC, 17 SYMADJ2, 18 SYMADJ1, 19 VOUT, 20 DEC+, 21 DEC-, 22 VSS, 23 NC, 24 SENS. ELECTR., 25 SENS. NEUTRL, 26 NULLAD, 27 CAP+, 28 CAP-

## SLW-104-01-G-S
designator *  Supplier Part Number 1: SAM1089-04-ND  (hidden comment: *)
Supplier 1: Digi-Key
footprint SLW-104-01-G-S
pins: 1, 2, 3, 4

## SLW-105-01-G-D
designator *  Supplier Part Number 1: SAM1088-05-ND  (hidden comment: *)
Supplier 1: Digi-Key
footprint SLW-105-01-G-D
pins: 1, 2, 3, 4, 5, 6, 7, 8, 9, 10

## SLW-108-01-G-D
designator P?  (value not drawn)
Supplier 1: Digi-Key
footprint SLW-108-01-G-D
pins: 1, 2, 3, 4, 5, 6, 7, 8, 9, 10, 11, 12, 13, 14, 15, 16

## SN65LBC179QDRG4
designator *  Supplier Part Number 1: 296-22544-6-ND  (hidden comment: *)
Supplier 1: Digi-Key
footprint SN65LBC179QDRG4
pins: 1 VCC, 2 R, 3 D, 4 GND, 5 Y, 6 Z, 7 B, 8 A

## SN754410
designator *  Supplier Part Number 1: SN754410NE  (hidden comment: *)
Supplier 1: Arrow
pins: 1 1,2 EN, 2 1A, 3 1Y, 4 GND, 5 GND, 6 2Y, 7 2A, 8 VCC2, 9 3,4 EN, 10 3A, 11 3Y, 12 GND, 13 GND, 14 4Y, 15 4A, 16 VCC1

## SSW-102-02-G-S-RA
designator p?  Supplier Part Number 1: SAM1225-02-ND  (hidden comment: SSW-102-02-G-S-RA)
Supplier 1: Digi-Key
footprint SSW-102-02-G-S-RA
pins: 1, 2

## SSW-103-02-G-S-RA
designator *  (value not drawn)
footprint SSW-103-02-G-S-RA
pins: 1, 2, 3

## SSW-140-23-G-D
designator *  (value not drawn)
footprint SSW-140-23-G-D
pins: 1, 2, 3, 4, 5, 6, 7, 8, 9, 10, 11, 12, 13, 14, 15, 16, 17, 18, 19, 20, 21, 22, 23, 24, 25, 26, 27, 28, 29, 30, 31, 32, 33, 34, 35, 36, 37, 38, 39, 40, 41, 42, 43, 44, 45, 46, 47, 48, 49, 50, 51, 52, 53, 54, 55, 56, 57, 58, 59, 60, 61, 62, 63, 64, 65, 66, 67, 68, 69, 70, 71, 72, 73, 74, 75, 76, 77, 78, 79, 80

## STMM-105-01-G-D
designator *  (value not drawn)
footprint STMM-105-01-G-D
pins: 1, 2, 3, 4, 5, 6, 7, 8, 9, 10

## STMM-113-01-G-D
designator *, comment 2.00 mm Shrouded Terminal Strip, Cable Mate  (value not drawn)
footprint STMM-113-01-G-D (Headers & Wire Housings MGrid Hdr Shrd Vt 0. rd Vt 0.38AuLF 26Ckt)
pins: 1, 2, 3, 4, 5, 6, 7, 8, 9, 10, 11, 12, 13, 14, 15, 16, 17, 18, 19, 20, 21, 22, 23, 24, 25, 26

## STSPIN220
designator u?  (value not drawn)
footprint STSPIN220-QFN127P600-8N
pins: 1 DIR/MODE4, 2 STEP/MODE3, 3 OUTA1, 4 SNSA, 5 OUTA2, 6 VS, 7 GND, 8 OUTB2, 9 SNSB, 10 OUTB1, 11 REF, 12 TOFF, 13 EN/FAULT, 14 STBY/RESET, 15 MODE2, 16 MODE1, 17 PAD

## SZNUD3160LT1G
designator *  (value not drawn)
pins: 1 GATE, 2 SOURCE, 3 DRAIN

## TFM-103-01-L-D-RA
designator *  (value not drawn)
footprint TFM-103-01-L-D-RA
pins: 1, 2, 3, 4, 5, 6

## TFM-115-01-L-D-RE2-WT
designator *  (value not drawn)
footprint TFM-115-01-L-D-RE2-WT
pins: 1, 2, 3, 4, 5, 6, 7, 8, 9, 10, 11, 12, 13, 14, 15, 16, 17, 18, 19, 20, 21, 22, 23, 24, 25, 26, 27, 28, 29, 30

## TLW-104-05-G-S
designator P?  Supplier Part Number 1: MTLW-104-05-G-S-185-ND  (hidden comment: TLW-104-05-G-S)
Supplier 1: Digi-Key
footprint TLW-104-05-G-S
pins: 1, 2, 3, 4

## TLW-105-05-G-D
designator P?  Supplier Part Number 1: MTLW-105-05-G-D-170-ND  (hidden comment: TLW-105-05-G-D)
Supplier 1: Digi-Key
footprint TLW-105-05-G-D
pins: 1, 2, 3, 4, 5, 6, 7, 8, 9, 10

## TLW-108-05-G-D
designator P?  (value not drawn)
Supplier 1: Digi-Key; Supplier Part Number 1: SAM1094-08-ND
footprint TLW-108-05-G-D
pins: 1, 2, 3, 4, 5, 6, 7, 8, 9, 10, 11, 12, 13, 14, 15, 16

## Triax_Conn
designator *  (value not drawn)
footprint Triax_Conn (Triaxial pads for Conning Tower)
pins: 1, 2, 3

## Trimmer
designator *  (value not drawn)
pins: 1 a, 2 b, 3 c

## Trimmer_Long
designator *  (value not drawn)
pins: 1 a, 2 b, 3 c

## TUNS300F28
designator U?  Supplier Part Number 1: 1776-1801-ND  (hidden comment: *)
Supplier 1: Digi-Key
footprint TUNS300F28 (AC-DC power supply 28V)
pins: 1 AC1, 2 AC2, 3 -Vout, 4 +Vout, 5 -S, 6 +S, 7 TRM, 8 IOG, 9 4-FG, 10 -BC, 11 +BC, 12 R

## UCN5804B
designator *  (value not drawn)
footprint DIP-16-KEY
pins: 1 Output a, 2 KBD, 3 Output b, 4 GND, 5 GND, 6 Output c, 7 KAC, 8 Output a, 9 ONE-PHASE, 10 HALF-STEP, 11 STEP-INPUT, 12 GND, 13 GND, 14 DIRECTION, 15 OUTPUT ENABLE, 16 VDD